# Altium schematic symbol library DMT6007LFG-7.SchLib: 1 symbol
Pins are listed as number, name and electrical type; pins without a type are passive.

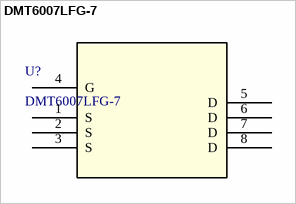
[diagram p0: symbol DMT6007LFG-7]

## DMT6007LFG-7
designator U?
No Description Available; Manufacturer_Name: Diodes Inc; Copyright: Copyright (C) 2026 Ultra Librarian. All rights reserved.; Manufacturer_Part_Number: DMT6007LFG-7; Digi-Key_Part_Number_1: DMT6007LFG-7DITR-ND; Digi-Key_Part_Number_2: DMT6007LFG-7DICT-ND; Digi-Key_Part_Number_3: DMT6007LFG-7DIDKR-ND; RefDes: RefDes; Type: Type
footprint TRANS_DMT6007LFG-7_DIO
pins: 1 S, 2 S, 3 S, 4 G, 5 D, 6 D, 7 D, 8 D